# Altium schematic symbol library TI Power Management DC-DC Controller (External Switch).SchLib: 349 symbols (part 3 of 26)
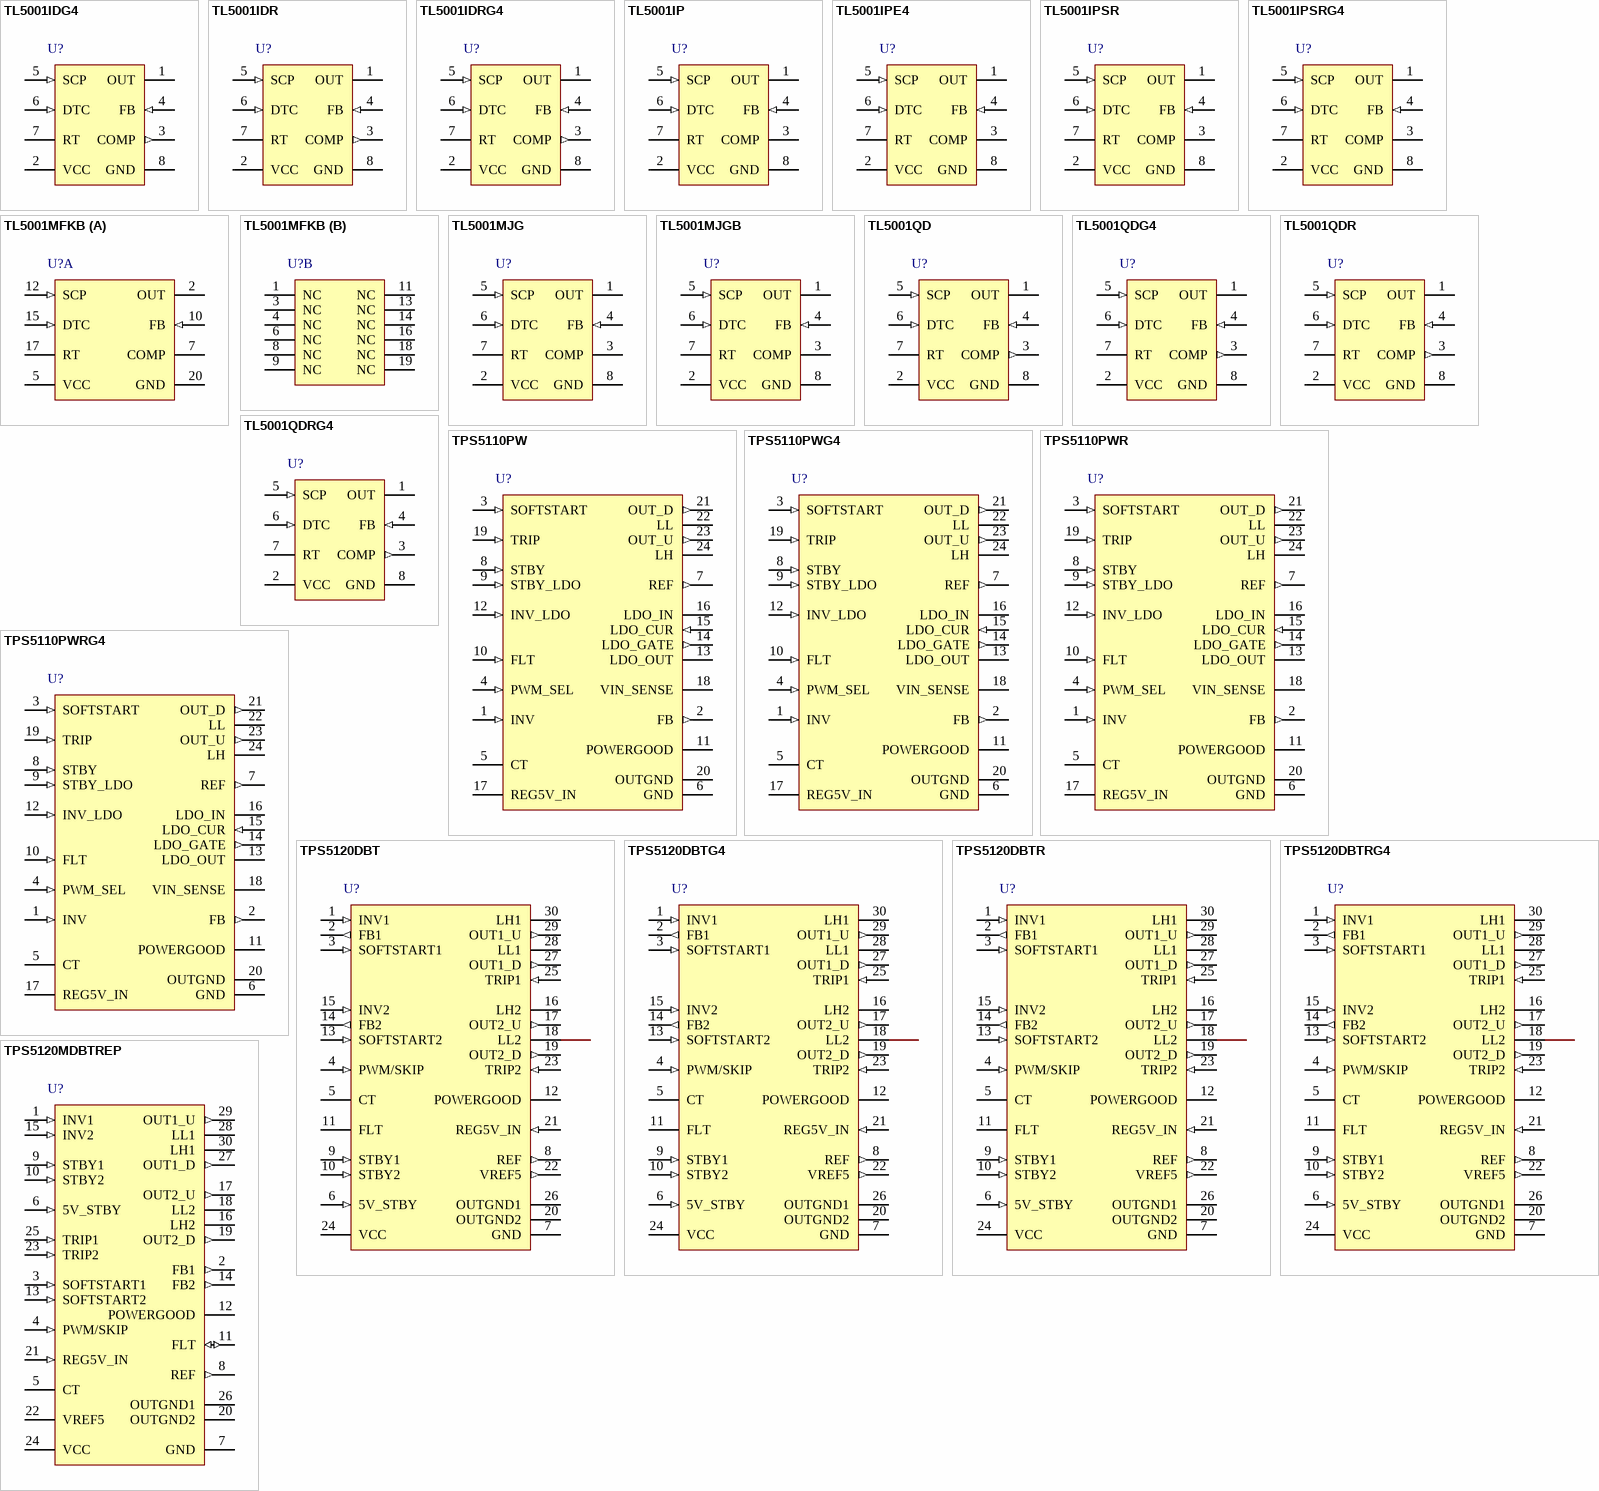
[diagram p16: symbols TL5001IDG4 to TPS5120MDBTREP]

## TL5001IDRG4
designator U?
PWM Controller with Wide Input Range, 3.6 to 40 V, -40 to 85 degC, 8-pin SOIC (D), Green (RoHS & no Sb/Br); Manufacturer: Texas Instruments; PartNumber: TL5001IDRG4; Iout(Max)(A): 3; Regulated Outputs(#): 1; SubFamily: Buck-Boost, Inverting Switching Controller; Switching Frequency(Max)(kHz): 400; Synchronous Rectification: TRUE; Topology: Buck, Boost, Flyback"; Vin(Max)(V): 40; Vin(Min)(V): 3.6; Vout(Max)(V): 50; DatasheetVersion: SLVS084F; PackageVersion: revM, Jun-2011; PackageReference: D8; PackageDescription: 8-Pin Plastic Small Outline Integrated Circuit, 4.9 x 3.9 mm, Pitch 1.27 mm Pitch; Supplier 1: Digi-Key; Supplier Part Number 1: TL5001IDRG4-ND; Eco-Plan: Green (RoHS & no Sb/Br); Vout(Min)(V): 1; Mounting Technology: Surface Mount; Code_JEDEC: MS-012AA; ComponentLink1Description: Datasheet; ComponentLink1URL: http://www.ti.com/general/docs/lit/getliterature.tsp?genericPartNumber=TL5001&fileType=pdf; ComponentLink2Description: Package Specification; ComponentLink2URL: http://www.ti.com/litv/pdf/msoi002j
footprint D8_N (SOIC, 8-Leads, Body 4.9x3.9mm, Pitch 1.27mm, IPC Medium Density)
footprint D8_L (SOIC, 8-Leads, Body 4.9x3.9mm, Pitch 1.27mm, IPC High Density)
footprint D8_M (SOIC, 8-Leads, Body 4.9x3.9mm, Pitch 1.27mm, IPC Low Density)
pins: 1 OUT (oc), 2 VCC (power), 3 COMP (out), 4 FB (in), 5 SCP (in), 6 DTC (in), 7 RT, 8 GND (power)

## TL5001IP
designator U?
PWM Controller with Wide Input Range, 3.6 to 40 V, -40 to 85 degC, 8-pin PDIP (P), Pb-Free (RoHS); Manufacturer: Texas Instruments; PartNumber: TL5001IP; Iout(Max)(A): 3; Regulated Outputs(#): 1; SubFamily: Buck-Boost, Inverting Switching Controller; Switching Frequency(Max)(kHz): 400; Synchronous Rectification: TRUE; Topology: Buck, Boost, Flyback"; Vin(Max)(V): 40; Vin(Min)(V): 3.6; Vout(Max)(V): 50; DatasheetVersion: SLVS084F; PackageVersion: revE, Apr-2010; PackageReference: P8; PackageDescription: 8-Pin Plastic Dual-In-Line Package, Row Spacing 7.62 mm, Pitch 2.54 mm; Supplier 1: Digi-Key; Supplier Part Number 1: TL5001IP-ND; Eco-Plan: Pb-Free (RoHS); Vout(Min)(V): 1; Mounting Technology: Through Hole; Code_JEDEC: MS-001-BA; ComponentLink1Description: Datasheet; ComponentLink1URL: http://www.ti.com/general/docs/lit/getliterature.tsp?genericPartNumber=TL5001&fileType=pdf; ComponentLink2Description: Package Specification; ComponentLink2URL: http://www.ti.com/lit/ml/mpdi001b/mpdi001b.pdf
footprint P8 (DIP, 8-Leads, Row Spacing 7.62mm, Pitch 2.54mm, Body 9.6x6.4mm)
pins: 1 OUT (oc), 2 VCC (power), 3 COMP, 4 FB (in), 5 SCP (in), 6 DTC (in), 7 RT, 8 GND (power)

## TL5001IPE4
designator U?
PWM Controller with Wide Input Range, 3.6 to 40 V, -40 to 85 degC, 8-pin PDIP (P), Pb-Free (RoHS); Manufacturer: Texas Instruments; PartNumber: TL5001IPE4; Iout(Max)(A): 3; Regulated Outputs(#): 1; SubFamily: Buck-Boost, Inverting Switching Controller; Switching Frequency(Max)(kHz): 400; Synchronous Rectification: TRUE; Topology: Buck, Boost, Flyback"; Vin(Max)(V): 40; Vin(Min)(V): 3.6; Vout(Max)(V): 50; DatasheetVersion: SLVS084F; PackageVersion: revE, Apr-2010; PackageReference: P8; PackageDescription: 8-Pin Plastic Dual-In-Line Package, Row Spacing 7.62 mm, Pitch 2.54 mm; Supplier 1: Digi-Key; Supplier Part Number 1: TL5001IPE4-ND; Eco-Plan: Pb-Free (RoHS); Vout(Min)(V): 1; Mounting Technology: Through Hole; Code_JEDEC: MS-001-BA; ComponentLink1Description: Datasheet; ComponentLink1URL: http://www.ti.com/general/docs/lit/getliterature.tsp?genericPartNumber=TL5001&fileType=pdf; ComponentLink2Description: Package Specification; ComponentLink2URL: http://www.ti.com/lit/ml/mpdi001b/mpdi001b.pdf
footprint P8 (DIP, 8-Leads, Row Spacing 7.62mm, Pitch 2.54mm, Body 9.6x6.4mm)
pins: 1 OUT (oc), 2 VCC (power), 3 COMP, 4 FB (in), 5 SCP (in), 6 DTC (in), 7 RT, 8 GND (power)

## TL5001IPSR
designator U?
PWM Controller with Wide Input Range, 3.6 to 40 V, 8-pin SO (PS), Green (RoHS & no Sb/Br); Manufacturer: Texas Instruments; PartNumber: TL5001IPSR; Iout(Max)(A): 3; Regulated Outputs(#): 1; SubFamily: Buck-Boost, Inverting Switching Controller; Switching Frequency(Max)(kHz): 400; Synchronous Rectification: TRUE; Topology: Buck, Boost, Flyback"; Vin(Max)(V): 40; Vin(Min)(V): 3.6; Vout(Max)(V): 50; DatasheetVersion: SLVS084F; PackageVersion: revC, Mar-2003; PackageReference: PS8; PackageDescription: 8-Pin Plastic Small Outline Package, 6.2 x 5.3 mm, Pitch 1.27 mm Pitch; Supplier 1: Digi-Key; Supplier Part Number 1: TL5001IPSR-ND; Eco-Plan: Green (RoHS & no Sb/Br); Vout(Min)(V): 1; Mounting Technology: Surface Mount; ComponentLink1Description: Datasheet; ComponentLink1URL: http://www.ti.com/general/docs/lit/getliterature.tsp?genericPartNumber=TL5001&fileType=pdf; ComponentLink2Description: Package Specification; ComponentLink2URL: http://www.ti.com/litv/pdf/msop001a
footprint PS8_N (SOP, 8-Leads, Body 6.2x5.3mm, Pitch 1.27mm, IPC Medium Density)
footprint PS8_L (SOP, 8-Leads, Body 6.2x5.3mm, Pitch 1.27mm, IPC High Density)
footprint PS8_M (SOP, 8-Leads, Body 6.2x5.3mm, Pitch 1.27mm, IPC Low Density)
pins: 1 OUT (oc), 2 VCC (power), 3 COMP, 4 FB (in), 5 SCP (in), 6 DTC (in), 7 RT, 8 GND (power)

## TL5001IPSRG4
designator U?
PWM Controller with Wide Input Range, 3.6 to 40 V, 8-pin SO (PS), Green (RoHS & no Sb/Br); Manufacturer: Texas Instruments; PartNumber: TL5001IPSRG4; Iout(Max)(A): 3; Regulated Outputs(#): 1; SubFamily: Buck-Boost, Inverting Switching Controller; Switching Frequency(Max)(kHz): 400; Synchronous Rectification: TRUE; Topology: Buck, Boost, Flyback"; Vin(Max)(V): 40; Vin(Min)(V): 3.6; Vout(Max)(V): 50; DatasheetVersion: SLVS084F; PackageVersion: revC, Mar-2003; PackageReference: PS8; PackageDescription: 8-Pin Plastic Small Outline Package, 6.2 x 5.3 mm, Pitch 1.27 mm Pitch; Supplier 1: Digi-Key; Supplier Part Number 1: TL5001IPSRG4-ND; Eco-Plan: Green (RoHS & no Sb/Br); Vout(Min)(V): 1; Mounting Technology: Surface Mount; ComponentLink1Description: Datasheet; ComponentLink1URL: http://www.ti.com/general/docs/lit/getliterature.tsp?genericPartNumber=TL5001&fileType=pdf; ComponentLink2Description: Package Specification; ComponentLink2URL: http://www.ti.com/litv/pdf/msop001a
footprint PS8_N (SOP, 8-Leads, Body 6.2x5.3mm, Pitch 1.27mm, IPC Medium Density)
footprint PS8_L (SOP, 8-Leads, Body 6.2x5.3mm, Pitch 1.27mm, IPC High Density)
footprint PS8_M (SOP, 8-Leads, Body 6.2x5.3mm, Pitch 1.27mm, IPC Low Density)
pins: 1 OUT (oc), 2 VCC (power), 3 COMP, 4 FB (in), 5 SCP (in), 6 DTC (in), 7 RT, 8 GND (power)

## TL5001MFKB
designator U?
PWM Controller with Wide Input Range, 3.6 to 40 V, -55 to 125 degC, 20-pin LCCC (FK); Manufacturer: Texas Instruments; PartNumber: TL5001MFKB; Duty Cycle(Max)(%): 0; Iout(Max)(A): 3; Regulated Outputs(#): 1; SubFamily: Buck-Boost, Inverting Switching Controller; Switching Frequency(Max)(kHz): 400; Synchronous Rectification: TRUE; Topology: Buck, Boost, Flyback; Vin(Max)(V): 40; Vin(Min)(V): 3.6; Vout(Max)(V): 50; DatasheetVersion: SLVS084F; PackageVersion: revD, Jan-2011; PackageReference: FK20; PackageDescription: 20-Pin Leadless Ceramic Chip Carrier, 1.27 mm Pitch; Vout(Min)(V): 1; Mounting Technology: Surface Mount; Code_JEDEC: MS-004; ComponentLink1Description: Datasheet; ComponentLink1URL: http://www.ti.com/general/docs/lit/getliterature.tsp?genericPartNumber=TL5001M&fileType=pdf; ComponentLink2Description: Package Specification; ComponentLink2URL: http://www.ti.com/litv/pdf/mlcc006d
footprint FK20_N (Leadless Chip Carrier, 20-Leads, Body 8.9x8.9mm, Pitch 1.27mm, IPC Medium Density)
footprint FK20_L (Leadless Chip Carrier, 20-Leads, Body 8.9x8.9mm, Pitch 1.27mm, IPC High Density)
footprint FK20_M (Leadless Chip Carrier, 20-Leads, Body 8.9x8.9mm, Pitch 1.27mm, IPC Low Density)
part A pins: 2 OUT (oc), 5 VCC (power), 7 COMP, 10 FB (in), 12 SCP (in), 15 DTC (in), 17 RT, 20 GND (power)
part B pins: 1 NC, 3 NC, 4 NC, 6 NC, 8 NC, 9 NC, 11 NC, 13 NC, 14 NC, 16 NC, 18 NC, 19 NC

## TL5001MJG
designator U?
PWM Controller with Wide Input Range, 3.6 to 40 V, -55 to 125 degC, 8-pin CDIP (JG); Manufacturer: Texas Instruments; PartNumber: TL5001MJG; Duty Cycle(Max)(%): 0; Iout(Max)(A): 3; Regulated Outputs(#): 1; SubFamily: Buck-Boost, Inverting Switching Controller; Switching Frequency(Max)(kHz): 400; Synchronous Rectification: TRUE; Topology: Buck, Boost, Flyback; Vin(Max)(V): 40; Vin(Min)(V): 3.6; Vout(Max)(V): 50; DatasheetVersion: SLVS084F; PackageVersion: revC, Aug-1996; PackageReference: JG8; PackageDescription: 8-Pin Ceramic Dual-In-Line Package, Row Spacing 7.62 mm, Pitch 2.54 mm; Vout(Min)(V): 1; Mounting Technology: Through Hole; ComponentLink1Description: Datasheet; ComponentLink1URL: http://www.ti.com/general/docs/lit/getliterature.tsp?genericPartNumber=TL5001M&fileType=pdf; ComponentLink2Description: Package Specification; ComponentLink2URL: http://www.ti.com/litv/pdf/mcer001a
footprint JG8 (DIP, 8-Leads, Row Spacing 7.62mm, Pitch 2.54mm, Body 9.6x6.7mm)
pins: 1 OUT (oc), 2 VCC (power), 3 COMP, 4 FB (in), 5 SCP (in), 6 DTC (in), 7 RT, 8 GND (power)

## TL5001MJGB
designator U?
PWM Controller with Wide Input Range, 3.6 to 40 V, -55 to 125 degC, 8-pin CDIP (JG); Manufacturer: Texas Instruments; PartNumber: TL5001MJGB; Iout(Max)(A): 3; Regulated Outputs(#): 1; SubFamily: Buck-Boost, Inverting Switching Controller; Switching Frequency(Max)(kHz): 400; Synchronous Rectification: TRUE; Topology: Buck, Boost, Flyback; Vin(Max)(V): 40; Vin(Min)(V): 3.6; Vout(Max)(V): 50; DatasheetVersion: SLVS084F; PackageVersion: revC, Aug-1996; PackageReference: JG8; PackageDescription: 8-Pin Ceramic Dual-In-Line Package, Row Spacing 7.62 mm, Pitch 2.54 mm; Vout(Min)(V): 1; Mounting Technology: Through Hole; ComponentLink1Description: Datasheet; ComponentLink1URL: http://www.ti.com/general/docs/lit/getliterature.tsp?genericPartNumber=TL5001M&fileType=pdf; ComponentLink2Description: Package Specification; ComponentLink2URL: http://www.ti.com/litv/pdf/mcer001a
footprint JG8 (DIP, 8-Leads, Row Spacing 7.62mm, Pitch 2.54mm, Body 9.6x6.7mm)
pins: 1 OUT (oc), 2 VCC (power), 3 COMP, 4 FB (in), 5 SCP (in), 6 DTC (in), 7 RT, 8 GND (power)

## TL5001QD
designator U?
PWM Controller with Wide Input Range, 3.6 to 40 V, -40 to 125 degC, 8-pin SOIC (D), Green (RoHS & no Sb/Br); Manufacturer: Texas Instruments; PartNumber: TL5001QD; Duty Cycle(Max)(%): 0; Iout(Max)(A): 3; Regulated Outputs(#): 1; SubFamily: Buck-Boost, Inverting Switching Controller; Switching Frequency(Max)(kHz): 400; Synchronous Rectification: TRUE; Topology: Buck, Boost, Flyback; Vin(Max)(V): 40; Vin(Min)(V): 3.6; Vout(Max)(V): 50; DatasheetVersion: SLVS084F; PackageVersion: revM, Jun-2011; PackageReference: D8; PackageDescription: 8-Pin Plastic Small Outline Integrated Circuit, 4.9 x 3.9 mm, Pitch 1.27 mm Pitch; Supplier 1: Digi-Key; Supplier Part Number 1: 296-10215-5-ND; Eco-Plan: Green (RoHS & no Sb/Br); Vout(Min)(V): 1; Mounting Technology: Surface Mount; Code_JEDEC: MS-012AA; ComponentLink1Description: Datasheet; ComponentLink1URL: http://www.ti.com/general/docs/lit/getliterature.tsp?genericPartNumber=TL5001&fileType=pdf; ComponentLink2Description: Package Specification; ComponentLink2URL: http://www.ti.com/litv/pdf/msoi002j
footprint D8_N (SOIC, 8-Leads, Body 4.9x3.9mm, Pitch 1.27mm, IPC Medium Density)
footprint D8_L (SOIC, 8-Leads, Body 4.9x3.9mm, Pitch 1.27mm, IPC High Density)
footprint D8_M (SOIC, 8-Leads, Body 4.9x3.9mm, Pitch 1.27mm, IPC Low Density)
pins: 1 OUT (oc), 2 VCC (power), 3 COMP (out), 4 FB (in), 5 SCP (in), 6 DTC (in), 7 RT, 8 GND (power)

## TL5001QDG4
designator U?
PWM Controller with Wide Input Range, 3.6 to 40 V, 8-pin SOIC (D), Green (RoHS & no Sb/Br); Manufacturer: Texas Instruments; PartNumber: TL5001QDG4; Iout(Max)(A): 3; Regulated Outputs(#): 1; SubFamily: Buck-Boost, Inverting Switching Controller; Switching Frequency(Max)(kHz): 400; Synchronous Rectification: TRUE; Topology: Buck, Boost, Flyback"; Vin(Max)(V): 40; Vin(Min)(V): 3.6; Vout(Max)(V): 50; DatasheetVersion: SLVS084F; PackageVersion: revM, Jun-2011; PackageReference: D8; PackageDescription: 8-Pin Plastic Small Outline Integrated Circuit, 4.9 x 3.9 mm, Pitch 1.27 mm Pitch; Supplier 1: Digi-Key; Supplier Part Number 1: 296-22045-5-ND; Eco-Plan: Green (RoHS & no Sb/Br); Vout(Min)(V): 1; Mounting Technology: Surface Mount; Code_JEDEC: MS-012AA; ComponentLink1Description: Datasheet; ComponentLink1URL: http://www.ti.com/general/docs/lit/getliterature.tsp?genericPartNumber=TL5001&fileType=pdf; ComponentLink2Description: Package Specification; ComponentLink2URL: http://www.ti.com/litv/pdf/msoi002j
footprint D8_N (SOIC, 8-Leads, Body 4.9x3.9mm, Pitch 1.27mm, IPC Medium Density)
footprint D8_L (SOIC, 8-Leads, Body 4.9x3.9mm, Pitch 1.27mm, IPC High Density)
footprint D8_M (SOIC, 8-Leads, Body 4.9x3.9mm, Pitch 1.27mm, IPC Low Density)
pins: 1 OUT (oc), 2 VCC (power), 3 COMP (out), 4 FB (in), 5 SCP (in), 6 DTC (in), 7 RT, 8 GND (power)

## TL5001QDR
designator U?
PWM Controller with Wide Input Range, 3.6 to 40 V, -40 to 125 degC, 8-pin SOIC (D), Green (RoHS & no Sb/Br); Manufacturer: Texas Instruments; PartNumber: TL5001QDR; Duty Cycle(Max)(%): 0; Iout(Max)(A): 3; Regulated Outputs(#): 1; SubFamily: Buck-Boost, Inverting Switching Controller; Switching Frequency(Max)(kHz): 400; Synchronous Rectification: TRUE; Topology: Buck, Boost, Flyback; Vin(Max)(V): 40; Vin(Min)(V): 3.6; Vout(Max)(V): 50; DatasheetVersion: SLVS084F; PackageVersion: revM, Jun-2011; PackageReference: D8; PackageDescription: 8-Pin Plastic Small Outline Integrated Circuit, 4.9 x 3.9 mm, Pitch 1.27 mm Pitch; Supplier 1: Digi-Key; Supplier Part Number 1: TL5001QDR-ND; Eco-Plan: Green (RoHS & no Sb/Br); Vout(Min)(V): 1; Mounting Technology: Surface Mount; Code_JEDEC: MS-012AA; ComponentLink1Description: Datasheet; ComponentLink1URL: http://www.ti.com/general/docs/lit/getliterature.tsp?genericPartNumber=TL5001&fileType=pdf; ComponentLink2Description: Package Specification; ComponentLink2URL: http://www.ti.com/litv/pdf/msoi002j
footprint D8_N (SOIC, 8-Leads, Body 4.9x3.9mm, Pitch 1.27mm, IPC Medium Density)
footprint D8_L (SOIC, 8-Leads, Body 4.9x3.9mm, Pitch 1.27mm, IPC High Density)
footprint D8_M (SOIC, 8-Leads, Body 4.9x3.9mm, Pitch 1.27mm, IPC Low Density)
pins: 1 OUT (oc), 2 VCC (power), 3 COMP (out), 4 FB (in), 5 SCP (in), 6 DTC (in), 7 RT, 8 GND (power)

## TL5001QDRG4
designator U?
PWM Controller with Wide Input Range, 0 % Duty Cycle, 3.6 to 40 V, 8-pin SOIC (D), Green (RoHS & no Sb/Br); Manufacturer: Texas Instruments; PartNumber: TL5001QDRG4; Iout(Max)(A): 3; Regulated Outputs(#): 1; SubFamily: Buck-Boost, Inverting Switching Controller; Switching Frequency(Max)(kHz): 400; Synchronous Rectification: TRUE; Topology: Buck, Boost, Flyback"; Vin(Max)(V): 40; Vin(Min)(V): 3.6; Vout(Max)(V): 50; DatasheetVersion: SLVS084F; PackageVersion: revM, Jun-2011; PackageReference: D8; PackageDescription: 8-Pin Plastic Small Outline Integrated Circuit, 4.9 x 3.9 mm, Pitch 1.27 mm Pitch; Supplier 1: Digi-Key; Supplier Part Number 1: 296-29556-2-ND; Eco-Plan: Green (RoHS & no Sb/Br); Vout(Min)(V): 1; Mounting Technology: Surface Mount; Code_JEDEC: MS-012AA; ComponentLink1Description: Datasheet; ComponentLink1URL: http://www.ti.com/general/docs/lit/getliterature.tsp?genericPartNumber=TL5001&fileType=pdf; ComponentLink2Description: Package Specification; ComponentLink2URL: http://www.ti.com/litv/pdf/msoi002j
footprint D8_N (SOIC, 8-Leads, Body 4.9x3.9mm, Pitch 1.27mm, IPC Medium Density)
footprint D8_L (SOIC, 8-Leads, Body 4.9x3.9mm, Pitch 1.27mm, IPC High Density)
footprint D8_M (SOIC, 8-Leads, Body 4.9x3.9mm, Pitch 1.27mm, IPC Low Density)
pins: 1 OUT (oc), 2 VCC (power), 3 COMP (out), 4 FB (in), 5 SCP (in), 6 DTC (in), 7 RT, 8 GND (power)

## TPS5110PW
designator U?
Synchronous Buck PWM Controller with NMOS LDO Controller, 100 % Duty Cycle, 4.5 to 28 V, -40 to 85 degC, 24-pin TSSOP (PW), Green (RoHS & no Sb/Br); Manufacturer: Texas Instruments; PartNumber: TPS5110PW; Duty Cycle(Max)(%): 100; Iout(Max)(A): 15; Regulated Outputs(#): 2; SubFamily: Step-Down Controller; Switching Frequency(Max)(kHz): 500; Synchronous Rectification: TRUE; Vin(Max)(V): 28; Vin(Min)(V): 4.5; Vout(Max)(V): 3.5; Vout(Min)(V): 0.9; DatasheetVersion: SLVS025B; PackageVersion: revG, Feb-2011; PackageReference: PW24; PackageDescription: 24-Pin Thin Small Outline Package 0.65 mm Pitch; Supplier 1: Digi-Key; Supplier Part Number 1: 296-15672-5-ND; Eco-Plan: Green (RoHS & no Sb/Br); Iout2(A): 15; Topology: Buck; Vout2(Max)(V): 3.5; Vout2(Min)(V): 0.9; Mounting Technology: Surface Mount; Code_JEDEC: MO-153; ComponentLink1Description: Datasheet; ComponentLink1URL: http://www.ti.com/general/docs/lit/getliterature.tsp?genericPartNumber=TPS5110&fileType=pdf; ComponentLink2Description: Package Specification; ComponentLink2URL: http://www.ti.com/litv/pdf/mpds177g
footprint PW24_N (TSOP, 24-Leads, Body 7.8x4.4mm, Pitch 0.65mm, IPC Medium Density)
footprint PW24_L (TSOP, 24-Leads, Body 7.8x4.4mm, Pitch 0.65mm, IPC High Density)
footprint PW24_M (TSOP, 24-Leads, Body 7.8x4.4mm, Pitch 0.65mm, IPC Low Density)
pins: 1 INV (in) "Inverting input of the SBRC error amplifier, skip comparator, OVP/UVP comparators and POWERGOOD comparator", 2 FB (out) "Feedback output of error amplifier", 3 SOFTSTART (in) "External capacitor between SOFTSTART and GND sets SBRC soft-start time.", 4 PWM_SEL (in) "PWM or auto PWM/SKIP modes select. H: auto PWM/SKIP L: PWM fixed", 5 CT "External capacitor from CT to GND adjusts frequency of the triangle oscillator.", 6 GND (power) "Signal GND", 7 REF (out) "0.85-V reference voltage output. This 0.85-V reference voltage is used for setting the output voltage and the voltage protections. This reference voltage is regulated from REG5V_IN power supply.", 8 STBY (in) "Standby control input for SBRC. SBRC can be switched into standby mode by grounding the STBY pin.", 9 STBY_LDO (in) "Standby control input for LDO regulator. LDO regulator can be switched into standby mode by grounding the STBY_LDO pin.", 10 FLT (in) "Fault latch timer pin. An external capacitor is connected between FLT and GND to set the FLT enable time up.", 11 POWERGOOD (oc) "Power good open-drain output. PG comparators monitor both SBRC’s and LDO’s over voltage and under voltage. The threshold is +/-7%. When either output is beyond this condition, POWERGOOD output goes low. When STBY or STBY_LDO (See Datasheet)", 12 INV_LDO (in) "Inverting input of the LDO regulator, OVP/UVP comparators and POWERGOOD comparator", 13 LDO_OUT (power) "LDO regulator’s output connection. If output voltage causes an over shoot at output current changes high to low quickly, it pulls out electrical charge from this pin.", 14 LDO_GATE (out) "Gate control output of an external MOSFET for LDO", 15 LDO_CUR (in) "Current sense input of the LDO regulator.", 16 LDO_IN (power) "Input of LDO regulator and current sense input of LDO regulator", 17 REG5V_IN (power) "External 5-V input. This input is a supply voltage for internal circuits.", 18 VIN_SENSE (power) "SBRC supply voltage monitor. Input range is 4.5 V to 28 V. This pin is for reference of current limit.", 19 TRIP (in) "External resistor connection for SBRC’s output current protection control.", 20 OUTGND (power) "Ground for FET drivers. It is connected to the current limiting comparator’s negative input.", 21 OUT_D (out) "Gate drive output for low-side MOSFET(s)", 22 LL (power) "High side gate driving return. Connect this pin to the junction of the high side and low side MOSFET(s) for floating drive configuration. This pin also is an input terminal for current comparator.", 23 OUT_U (out) "Gate drive output for high-side MOSFET(s).", 24 LH (power) "Bootstrap capacitor connection for high-side gate driver"

## TPS5110PWG4
designator U?
Synchronous Buck PWM Controller with NMOS LDO Controller, 100 % Duty Cycle, 4.5 to 28 V, -40 to 85 degC, 24-pin TSSOP (PW), Green (RoHS & no Sb/Br); Manufacturer: Texas Instruments; PartNumber: TPS5110PWG4; Duty Cycle(Max)(%): 100; Iout(Max)(A): 15; Regulated Outputs(#): 2; SubFamily: Step-Down Controller; Switching Frequency(Max)(kHz): 500; Synchronous Rectification: TRUE; Vin(Max)(V): 28; Vin(Min)(V): 4.5; Vout(Max)(V): 3.5; Vout(Min)(V): 0.9; DatasheetVersion: SLVS025B; PackageVersion: revG, Feb-2011; PackageReference: PW24; PackageDescription: 24-Pin Thin Small Outline Package 0.65 mm Pitch; Supplier 1: Digi-Key; Supplier Part Number 1: TPS5110PWG4-ND; Eco-Plan: Green (RoHS & no Sb/Br); Iout2(A): 15; Topology: Buck; Vout2(Max)(V): 3.5; Vout2(Min)(V): 0.9; Mounting Technology: Surface Mount; Code_JEDEC: MO-153; ComponentLink1Description: Datasheet; ComponentLink1URL: http://www.ti.com/general/docs/lit/getliterature.tsp?genericPartNumber=TPS5110&fileType=pdf; ComponentLink2Description: Package Specification; ComponentLink2URL: http://www.ti.com/litv/pdf/mpds177g
footprint PW24_N (TSOP, 24-Leads, Body 7.8x4.4mm, Pitch 0.65mm, IPC Medium Density)
footprint PW24_L (TSOP, 24-Leads, Body 7.8x4.4mm, Pitch 0.65mm, IPC High Density)
footprint PW24_M (TSOP, 24-Leads, Body 7.8x4.4mm, Pitch 0.65mm, IPC Low Density)
pins: 1 INV (in) "Inverting input of the SBRC error amplifier, skip comparator, OVP/UVP comparators and POWERGOOD comparator", 2 FB (out) "Feedback output of error amplifier", 3 SOFTSTART (in) "External capacitor between SOFTSTART and GND sets SBRC soft-start time.", 4 PWM_SEL (in) "PWM or auto PWM/SKIP modes select. H: auto PWM/SKIP L: PWM fixed", 5 CT "External capacitor from CT to GND adjusts frequency of the triangle oscillator.", 6 GND (power) "Signal GND", 7 REF (out) "0.85-V reference voltage output. This 0.85-V reference voltage is used for setting the output voltage and the voltage protections. This reference voltage is regulated from REG5V_IN power supply.", 8 STBY (in) "Standby control input for SBRC. SBRC can be switched into standby mode by grounding the STBY pin.", 9 STBY_LDO (in) "Standby control input for LDO regulator. LDO regulator can be switched into standby mode by grounding the STBY_LDO pin.", 10 FLT (in) "Fault latch timer pin. An external capacitor is connected between FLT and GND to set the FLT enable time up.", 11 POWERGOOD (oc) "Power good open-drain output. PG comparators monitor both SBRC’s and LDO’s over voltage and under voltage. The threshold is +/-7%. When either output is beyond this condition, POWERGOOD output goes low. When STBY or STBY_LDO (See Datasheet)", 12 INV_LDO (in) "Inverting input of the LDO regulator, OVP/UVP comparators and POWERGOOD comparator", 13 LDO_OUT (power) "LDO regulator’s output connection. If output voltage causes an over shoot at output current changes high to low quickly, it pulls out electrical charge from this pin.", 14 LDO_GATE (out) "Gate control output of an external MOSFET for LDO", 15 LDO_CUR (in) "Current sense input of the LDO regulator.", 16 LDO_IN (power) "Input of LDO regulator and current sense input of LDO regulator", 17 REG5V_IN (power) "External 5-V input. This input is a supply voltage for internal circuits.", 18 VIN_SENSE (power) "SBRC supply voltage monitor. Input range is 4.5 V to 28 V. This pin is for reference of current limit.", 19 TRIP (in) "External resistor connection for SBRC’s output current protection control.", 20 OUTGND (power) "Ground for FET drivers. It is connected to the current limiting comparator’s negative input.", 21 OUT_D (out) "Gate drive output for low-side MOSFET(s)", 22 LL (power) "High side gate driving return. Connect this pin to the junction of the high side and low side MOSFET(s) for floating drive configuration. This pin also is an input terminal for current comparator.", 23 OUT_U (out) "Gate drive output for high-side MOSFET(s).", 24 LH (power) "Bootstrap capacitor connection for high-side gate driver"

## TPS5110PWR
designator U?
Synchronous Buck PWM Controller with NMOS LDO Controller, 100 % Duty Cycle, 4.5 to 28 V, -40 to 85 degC, 24-pin TSSOP (PW), Green (RoHS & no Sb/Br); Manufacturer: Texas Instruments; PartNumber: TPS5110PWR; Duty Cycle(Max)(%): 100; Iout(Max)(A): 15; Regulated Outputs(#): 2; SubFamily: Step-Down Controller; Switching Frequency(Max)(kHz): 500; Synchronous Rectification: TRUE; Vin(Max)(V): 28; Vin(Min)(V): 4.5; Vout(Max)(V): 3.5; Vout(Min)(V): 0.9; DatasheetVersion: SLVS025B; PackageVersion: revG, Feb-2011; PackageReference: PW24; PackageDescription: 24-Pin Thin Small Outline Package 0.65 mm Pitch; Supplier 1: Digi-Key; Supplier Part Number 1: TPS5110PWR-ND; Eco-Plan: Green (RoHS & no Sb/Br); Iout2(A): 15; Topology: Buck; Vout2(Max)(V): 3.5; Vout2(Min)(V): 0.9; Mounting Technology: Surface Mount; Code_JEDEC: MO-153; ComponentLink1Description: Datasheet; ComponentLink1URL: http://www.ti.com/general/docs/lit/getliterature.tsp?genericPartNumber=TPS5110&fileType=pdf; ComponentLink2Description: Package Specification; ComponentLink2URL: http://www.ti.com/litv/pdf/mpds177g
footprint PW24_N (TSOP, 24-Leads, Body 7.8x4.4mm, Pitch 0.65mm, IPC Medium Density)
footprint PW24_L (TSOP, 24-Leads, Body 7.8x4.4mm, Pitch 0.65mm, IPC High Density)
footprint PW24_M (TSOP, 24-Leads, Body 7.8x4.4mm, Pitch 0.65mm, IPC Low Density)
pins: 1 INV (in) "Inverting input of the SBRC error amplifier, skip comparator, OVP/UVP comparators and POWERGOOD comparator", 2 FB (out) "Feedback output of error amplifier", 3 SOFTSTART (in) "External capacitor between SOFTSTART and GND sets SBRC soft-start time.", 4 PWM_SEL (in) "PWM or auto PWM/SKIP modes select. H: auto PWM/SKIP L: PWM fixed", 5 CT "External capacitor from CT to GND adjusts frequency of the triangle oscillator.", 6 GND (power) "Signal GND", 7 REF (out) "0.85-V reference voltage output. This 0.85-V reference voltage is used for setting the output voltage and the voltage protections. This reference voltage is regulated from REG5V_IN power supply.", 8 STBY (in) "Standby control input for SBRC. SBRC can be switched into standby mode by grounding the STBY pin.", 9 STBY_LDO (in) "Standby control input for LDO regulator. LDO regulator can be switched into standby mode by grounding the STBY_LDO pin.", 10 FLT (in) "Fault latch timer pin. An external capacitor is connected between FLT and GND to set the FLT enable time up.", 11 POWERGOOD (oc) "Power good open-drain output. PG comparators monitor both SBRC’s and LDO’s over voltage and under voltage. The threshold is +/-7%. When either output is beyond this condition, POWERGOOD output goes low. When STBY or STBY_LDO (See Datasheet)", 12 INV_LDO (in) "Inverting input of the LDO regulator, OVP/UVP comparators and POWERGOOD comparator", 13 LDO_OUT (power) "LDO regulator’s output connection. If output voltage causes an over shoot at output current changes high to low quickly, it pulls out electrical charge from this pin.", 14 LDO_GATE (out) "Gate control output of an external MOSFET for LDO", 15 LDO_CUR (in) "Current sense input of the LDO regulator.", 16 LDO_IN (power) "Input of LDO regulator and current sense input of LDO regulator", 17 REG5V_IN (power) "External 5-V input. This input is a supply voltage for internal circuits.", 18 VIN_SENSE (power) "SBRC supply voltage monitor. Input range is 4.5 V to 28 V. This pin is for reference of current limit.", 19 TRIP (in) "External resistor connection for SBRC’s output current protection control.", 20 OUTGND (power) "Ground for FET drivers. It is connected to the current limiting comparator’s negative input.", 21 OUT_D (out) "Gate drive output for low-side MOSFET(s)", 22 LL (power) "High side gate driving return. Connect this pin to the junction of the high side and low side MOSFET(s) for floating drive configuration. This pin also is an input terminal for current comparator.", 23 OUT_U (out) "Gate drive output for high-side MOSFET(s).", 24 LH (power) "Bootstrap capacitor connection for high-side gate driver"

## TPS5110PWRG4
designator U?
Synchronous Buck PWM Controller with NMOS LDO Controller, 100 % Duty Cycle, 4.5 to 28 V, -40 to 85 degC, 24-pin TSSOP (PW), Green (RoHS & no Sb/Br); Manufacturer: Texas Instruments; PartNumber: TPS5110PWRG4; Duty Cycle(Max)(%): 100; Iout(Max)(A): 15; Regulated Outputs(#): 2; SubFamily: Step-Down Controller; Switching Frequency(Max)(kHz): 500; Synchronous Rectification: TRUE; Vin(Max)(V): 28; Vin(Min)(V): 4.5; Vout(Max)(V): 3.5; Vout(Min)(V): 0.9; DatasheetVersion: SLVS025B; PackageVersion: revG, Feb-2011; PackageReference: PW24; PackageDescription: 24-Pin Thin Small Outline Package 0.65 mm Pitch; Supplier 1: Digi-Key; Supplier Part Number 1: TPS5110PWRG4-ND; Eco-Plan: Green (RoHS & no Sb/Br); Iout2(A): 15; Topology: Buck; Vout2(Max)(V): 3.5; Vout2(Min)(V): 0.9; Mounting Technology: Surface Mount; Code_JEDEC: MO-153; ComponentLink1Description: Datasheet; ComponentLink1URL: http://www.ti.com/general/docs/lit/getliterature.tsp?genericPartNumber=TPS5110&fileType=pdf; ComponentLink2Description: Package Specification; ComponentLink2URL: http://www.ti.com/litv/pdf/mpds177g
footprint PW24_N (TSOP, 24-Leads, Body 7.8x4.4mm, Pitch 0.65mm, IPC Medium Density)
footprint PW24_L (TSOP, 24-Leads, Body 7.8x4.4mm, Pitch 0.65mm, IPC High Density)
footprint PW24_M (TSOP, 24-Leads, Body 7.8x4.4mm, Pitch 0.65mm, IPC Low Density)
pins: 1 INV (in) "Inverting input of the SBRC error amplifier, skip comparator, OVP/UVP comparators and POWERGOOD comparator", 2 FB (out) "Feedback output of error amplifier", 3 SOFTSTART (in) "External capacitor between SOFTSTART and GND sets SBRC soft-start time.", 4 PWM_SEL (in) "PWM or auto PWM/SKIP modes select. H: auto PWM/SKIP L: PWM fixed", 5 CT "External capacitor from CT to GND adjusts frequency of the triangle oscillator.", 6 GND (power) "Signal GND", 7 REF (out) "0.85-V reference voltage output. This 0.85-V reference voltage is used for setting the output voltage and the voltage protections. This reference voltage is regulated from REG5V_IN power supply.", 8 STBY (in) "Standby control input for SBRC. SBRC can be switched into standby mode by grounding the STBY pin.", 9 STBY_LDO (in) "Standby control input for LDO regulator. LDO regulator can be switched into standby mode by grounding the STBY_LDO pin.", 10 FLT (in) "Fault latch timer pin. An external capacitor is connected between FLT and GND to set the FLT enable time up.", 11 POWERGOOD (oc) "Power good open-drain output. PG comparators monitor both SBRC’s and LDO’s over voltage and under voltage. The threshold is +/-7%. When either output is beyond this condition, POWERGOOD output goes low. When STBY or STBY_LDO (See Datasheet)", 12 INV_LDO (in) "Inverting input of the LDO regulator, OVP/UVP comparators and POWERGOOD comparator", 13 LDO_OUT (power) "LDO regulator’s output connection. If output voltage causes an over shoot at output current changes high to low quickly, it pulls out electrical charge from this pin.", 14 LDO_GATE (out) "Gate control output of an external MOSFET for LDO", 15 LDO_CUR (in) "Current sense input of the LDO regulator.", 16 LDO_IN (power) "Input of LDO regulator and current sense input of LDO regulator", 17 REG5V_IN (power) "External 5-V input. This input is a supply voltage for internal circuits.", 18 VIN_SENSE (power) "SBRC supply voltage monitor. Input range is 4.5 V to 28 V. This pin is for reference of current limit.", 19 TRIP (in) "External resistor connection for SBRC’s output current protection control.", 20 OUTGND (power) "Ground for FET drivers. It is connected to the current limiting comparator’s negative input.", 21 OUT_D (out) "Gate drive output for low-side MOSFET(s)", 22 LL (power) "High side gate driving return. Connect this pin to the junction of the high side and low side MOSFET(s) for floating drive configuration. This pin also is an input terminal for current comparator.", 23 OUT_U (out) "Gate drive output for high-side MOSFET(s).", 24 LH (power) "Bootstrap capacitor connection for high-side gate driver"

## TPS5120DBT
designator U?
Dual Output, Two-Phase Synchronous Buck Controller with Wide Input Voltage Range, 80 % Duty Cycle, 4.5 to 28 V, -40 to 85 degC, 30-pin TSSOP (DBT), Green (RoHS & no Sb/Br); Manufacturer: Texas Instruments; PartNumber: TPS5120DBT; Duty Cycle(Max)(%): 80; Iout(Max)(A): 20; Iout2(A): 15; Regulated Outputs(#): 2; SubFamily: Multiple-Output Switching Controller; Switching Frequency(Max)(kHz): 500; Synchronous Rectification: TRUE; Vin(Max)(V): 28; Vin(Min)(V): 4.5; Vout(Max)(V): 26; Vout(Min)(V): 0.9; DatasheetVersion: SLVS278E; PackageVersion: Sep-2005; PackageReference: DBT30; PackageDescription: 30-Pin Thin Shrink Small Outline Package 0.5 mm Pitch; Supplier 1: Digi-Key; Supplier Part Number 1: 296-10925-5-ND; Eco-Plan: Green (RoHS & no Sb/Br); Topology: Buck; Vout2(Max)(V): 26; Vout2(Min)(V): 0.9; Mounting Technology: Surface Mount; Code_JEDEC: MO-153; ComponentLink1Description: Datasheet; ComponentLink1URL: http://www.ti.com/general/docs/lit/getliterature.tsp?genericPartNumber=TPS5120&fileType=pdf; ComponentLink2Description: Package Specification; ComponentLink2URL: http://www.ti.com/litv/pdf/mpds019h
footprint DBT30_N (TSSOP, 30-Leads, Body 7.8x4.4mm, Pitch 0.5mm, IPC Medium Density)
footprint DBT30_L (TSSOP, 30-Leads, Body 7.8x4.4mm, Pitch 0.5mm, IPC High Density)
footprint DBT30_M (TSSOP, 30-Leads, Body 7.8x4.4mm, Pitch 0.5mm, IPC Low Density)
pins: 1 INV1 (in) "Inverting input of the CH1 error amplifier, skip comparator, and OVP1/UVP1 comparator", 2 FB1 (out) "Feedback output of CH1 error amplifier", 3 SOFTSTART1 (in) "External capacitor from SOFTSTART1 to GND for CH1 softstart control. Separate soft-start terminals make it possible to set the start-up time of each output independently.", 4 PWM/SKIP (in) "PWM/SKIP mode select pin. The PWM/SKIP pin is used to change the output’s operating mode. If this terminal is lower than 0.5 V, it works in PWM mode. When a minimum voltage of 2 V is applied, the device operates in skip mode.(See Datasheet)", 5 CT "External capacitor from CT to GND for adjusting the triangle oscillator", 6 5V_STBY (in) "5-V linear regulator control", 7 GND (power) "Control GND", 8 REF (out) "0.85-V reference voltage output. The 0.85-V reference voltage is used for setting the output voltage and the voltage protection. This reference voltage is dropped down from a 5-V regulator.", 9 STBY1 (in) "Standby control for CH1. SMPS1 can be switched into standby mode separately by grounding the STBY1 pin.", 10 STBY2 (in) "Standby control for CH2. SMPS2 can be switched into standby mode separately by grounding the STBY2 pin.", 11 FLT "Fault latch timer pin. An external capacitor is connected between FLT and GND to set the FLT enable time up.", 12 POWERGOOD (oc) "Power good open-drain output. When low, POWERGOOD reports an output fail condition. PG comparators monitor both SMPS’s over voltage and UVLO of VREF5. The threshold is +/-7%. When the SMPS starts up, the POWERGOOD pin’s (See Datasheet)", 13 SOFTSTART2 (in) "External capacitor from SOFTSTART2 to GND for CH2 softstart control. Separate soft-start terminals make it possible to set the start-up time of each output independently.", 14 FB2 (out) "Feedback output of CH2 error amplifier", 15 INV2 (in) "Inverting input of the CH2 error amplifier, skip comparator, and OVP2/UVP2 comparator", 16 LH2 (power) "Bootstrap capacitor connection for CH2 high-side gate drive", 17 OUT2_U (out) "Gate drive output for CH2 high-side switching FETs", 18 LL2 (power) "Bootstrap this pin low for CH2 high-side gate driving return and output current protection. Connect this pin to the junction of the high-side and low-side FETs for a floating drive configuration.", 19 OUT2_D (out) "Gate drive output for CH2 low-side gate drive", 20 OUTGND2 (power) "Ground for CH2 FET drivers", 21 REG5V_IN (in) "External 5-V input", 22 VREF5 (out) "5-V internal regulator output", 23 TRIP2 (in) "External resistor connection for CH2 output current control", 24 VCC (power) "Supply voltage input", 25 TRIP1 (in) "External resistor connection for CH1 output current control", 26 OUTGND1 (power) "Ground for CH1 FET drivers", 27 OUT1_D (out) "Gate drive output for CH1 low-side gate drive", 28 LL1 (power) "Bootstrap this pin low for CH1 high-side gate driving return and output current protection. Connect this pin to the junction of the high-side and low-side FETs for a floating drive configuration.", 29 OUT1_U (out) "Gate drive output for CH1 high-side switching FETs", 30 LH1 (power) "Bootstrap capacitor connection for CH1 high-side gate drive"

## TPS5120DBTG4
designator U?
Dual Output, Two-Phase Synchronous Buck Controller with Wide Input Voltage Range, 80 % Duty Cycle, 4.5 to 28 V, -40 to 85 degC, 30-pin TSSOP (DBT), Green (RoHS & no Sb/Br); Manufacturer: Texas Instruments; PartNumber: TPS5120DBTG4; Duty Cycle(Max)(%): 80; Iout(Max)(A): 20; Iout2(A): 15; Regulated Outputs(#): 2; SubFamily: Multiple-Output Switching Controller; Switching Frequency(Max)(kHz): 500; Synchronous Rectification: TRUE; Vin(Max)(V): 28; Vin(Min)(V): 4.5; Vout(Max)(V): 26; Vout(Min)(V): 0.9; DatasheetVersion: SLVS278E; PackageVersion: Sep-2005; PackageReference: DBT30; PackageDescription: 30-Pin Thin Shrink Small Outline Package 0.5 mm Pitch; Supplier 1: Digi-Key; Supplier Part Number 1: TPS5120DBTG4-ND; Eco-Plan: Green (RoHS & no Sb/Br); Topology: Buck; Vout2(Max)(V): 26; Vout2(Min)(V): 0.9; Mounting Technology: Surface Mount; Code_JEDEC: MO-153; ComponentLink1Description: Datasheet; ComponentLink1URL: http://www.ti.com/general/docs/lit/getliterature.tsp?genericPartNumber=TPS5120&fileType=pdf; ComponentLink2Description: Package Specification; ComponentLink2URL: http://www.ti.com/litv/pdf/mpds019h
footprint DBT30_N (TSSOP, 30-Leads, Body 7.8x4.4mm, Pitch 0.5mm, IPC Medium Density)
footprint DBT30_L (TSSOP, 30-Leads, Body 7.8x4.4mm, Pitch 0.5mm, IPC High Density)
footprint DBT30_M (TSSOP, 30-Leads, Body 7.8x4.4mm, Pitch 0.5mm, IPC Low Density)
pins: 1 INV1 (in) "Inverting input of the CH1 error amplifier, skip comparator, and OVP1/UVP1 comparator", 2 FB1 (out) "Feedback output of CH1 error amplifier", 3 SOFTSTART1 (in) "External capacitor from SOFTSTART1 to GND for CH1 softstart control. Separate soft-start terminals make it possible to set the start-up time of each output independently.", 4 PWM/SKIP (in) "PWM/SKIP mode select pin. The PWM/SKIP pin is used to change the output’s operating mode. If this terminal is lower than 0.5 V, it works in PWM mode. When a minimum voltage of 2 V is applied, the device operates in skip mode.(See Datasheet)", 5 CT "External capacitor from CT to GND for adjusting the triangle oscillator", 6 5V_STBY (in) "5-V linear regulator control", 7 GND (power) "Control GND", 8 REF (out) "0.85-V reference voltage output. The 0.85-V reference voltage is used for setting the output voltage and the voltage protection. This reference voltage is dropped down from a 5-V regulator.", 9 STBY1 (in) "Standby control for CH1. SMPS1 can be switched into standby mode separately by grounding the STBY1 pin.", 10 STBY2 (in) "Standby control for CH2. SMPS2 can be switched into standby mode separately by grounding the STBY2 pin.", 11 FLT "Fault latch timer pin. An external capacitor is connected between FLT and GND to set the FLT enable time up.", 12 POWERGOOD (oc) "Power good open-drain output. When low, POWERGOOD reports an output fail condition. PG comparators monitor both SMPS’s over voltage and UVLO of VREF5. The threshold is +/-7%. When the SMPS starts up, the POWERGOOD pin’s (See Datasheet)", 13 SOFTSTART2 (in) "External capacitor from SOFTSTART2 to GND for CH2 softstart control. Separate soft-start terminals make it possible to set the start-up time of each output independently.", 14 FB2 (out) "Feedback output of CH2 error amplifier", 15 INV2 (in) "Inverting input of the CH2 error amplifier, skip comparator, and OVP2/UVP2 comparator", 16 LH2 (power) "Bootstrap capacitor connection for CH2 high-side gate drive", 17 OUT2_U (out) "Gate drive output for CH2 high-side switching FETs", 18 LL2 (power) "Bootstrap this pin low for CH2 high-side gate driving return and output current protection. Connect this pin to the junction of the high-side and low-side FETs for a floating drive configuration.", 19 OUT2_D (out) "Gate drive output for CH2 low-side gate drive", 20 OUTGND2 (power) "Ground for CH2 FET drivers", 21 REG5V_IN (in) "External 5-V input", 22 VREF5 (out) "5-V internal regulator output", 23 TRIP2 (in) "External resistor connection for CH2 output current control", 24 VCC (power) "Supply voltage input", 25 TRIP1 (in) "External resistor connection for CH1 output current control", 26 OUTGND1 (power) "Ground for CH1 FET drivers", 27 OUT1_D (out) "Gate drive output for CH1 low-side gate drive", 28 LL1 (power) "Bootstrap this pin low for CH1 high-side gate driving return and output current protection. Connect this pin to the junction of the high-side and low-side FETs for a floating drive configuration.", 29 OUT1_U (out) "Gate drive output for CH1 high-side switching FETs", 30 LH1 (power) "Bootstrap capacitor connection for CH1 high-side gate drive"

## TPS5120DBTR
designator U?
Dual Output, Two-Phase Synchronous Buck Controller with Wide Input Voltage Range, 80 % Duty Cycle, 4.5 to 28 V, -40 to 85 degC, 30-pin TSSOP (DBT), Green (RoHS & no Sb/Br); Manufacturer: Texas Instruments; PartNumber: TPS5120DBTR; Duty Cycle(Max)(%): 80; Iout(Max)(A): 20; Iout2(A): 15; Regulated Outputs(#): 2; SubFamily: Multiple-Output Switching Controller; Switching Frequency(Max)(kHz): 500; Synchronous Rectification: TRUE; Vin(Max)(V): 28; Vin(Min)(V): 4.5; Vout(Max)(V): 26; Vout(Min)(V): 0.9; DatasheetVersion: SLVS278E; PackageVersion: Sep-2005; PackageReference: DBT30; PackageDescription: 30-Pin Thin Shrink Small Outline Package 0.5 mm Pitch; Supplier 1: Digi-Key; Supplier Part Number 1: 296-26979-2-ND; Eco-Plan: Green (RoHS & no Sb/Br); Topology: Buck; Vout2(Max)(V): 26; Vout2(Min)(V): 0.9; Mounting Technology: Surface Mount; Code_JEDEC: MO-153; ComponentLink1Description: Datasheet; ComponentLink1URL: http://www.ti.com/general/docs/lit/getliterature.tsp?genericPartNumber=TPS5120&fileType=pdf; ComponentLink2Description: Package Specification; ComponentLink2URL: http://www.ti.com/litv/pdf/mpds019h
footprint DBT30_N (TSSOP, 30-Leads, Body 7.8x4.4mm, Pitch 0.5mm, IPC Medium Density)
footprint DBT30_L (TSSOP, 30-Leads, Body 7.8x4.4mm, Pitch 0.5mm, IPC High Density)
footprint DBT30_M (TSSOP, 30-Leads, Body 7.8x4.4mm, Pitch 0.5mm, IPC Low Density)
pins: 1 INV1 (in) "Inverting input of the CH1 error amplifier, skip comparator, and OVP1/UVP1 comparator", 2 FB1 (out) "Feedback output of CH1 error amplifier", 3 SOFTSTART1 (in) "External capacitor from SOFTSTART1 to GND for CH1 softstart control. Separate soft-start terminals make it possible to set the start-up time of each output independently.", 4 PWM/SKIP (in) "PWM/SKIP mode select pin. The PWM/SKIP pin is used to change the output’s operating mode. If this terminal is lower than 0.5 V, it works in PWM mode. When a minimum voltage of 2 V is applied, the device operates in skip mode.(See Datasheet)", 5 CT "External capacitor from CT to GND for adjusting the triangle oscillator", 6 5V_STBY (in) "5-V linear regulator control", 7 GND (power) "Control GND", 8 REF (out) "0.85-V reference voltage output. The 0.85-V reference voltage is used for setting the output voltage and the voltage protection. This reference voltage is dropped down from a 5-V regulator.", 9 STBY1 (in) "Standby control for CH1. SMPS1 can be switched into standby mode separately by grounding the STBY1 pin.", 10 STBY2 (in) "Standby control for CH2. SMPS2 can be switched into standby mode separately by grounding the STBY2 pin.", 11 FLT "Fault latch timer pin. An external capacitor is connected between FLT and GND to set the FLT enable time up.", 12 POWERGOOD (oc) "Power good open-drain output. When low, POWERGOOD reports an output fail condition. PG comparators monitor both SMPS’s over voltage and UVLO of VREF5. The threshold is +/-7%. When the SMPS starts up, the POWERGOOD pin’s (See Datasheet)", 13 SOFTSTART2 (in) "External capacitor from SOFTSTART2 to GND for CH2 softstart control. Separate soft-start terminals make it possible to set the start-up time of each output independently.", 14 FB2 (out) "Feedback output of CH2 error amplifier", 15 INV2 (in) "Inverting input of the CH2 error amplifier, skip comparator, and OVP2/UVP2 comparator", 16 LH2 (power) "Bootstrap capacitor connection for CH2 high-side gate drive", 17 OUT2_U (out) "Gate drive output for CH2 high-side switching FETs", 18 LL2 (power) "Bootstrap this pin low for CH2 high-side gate driving return and output current protection. Connect this pin to the junction of the high-side and low-side FETs for a floating drive configuration.", 19 OUT2_D (out) "Gate drive output for CH2 low-side gate drive", 20 OUTGND2 (power) "Ground for CH2 FET drivers", 21 REG5V_IN (in) "External 5-V input", 22 VREF5 (out) "5-V internal regulator output", 23 TRIP2 (in) "External resistor connection for CH2 output current control", 24 VCC (power) "Supply voltage input", 25 TRIP1 (in) "External resistor connection for CH1 output current control", 26 OUTGND1 (power) "Ground for CH1 FET drivers", 27 OUT1_D (out) "Gate drive output for CH1 low-side gate drive", 28 LL1 (power) "Bootstrap this pin low for CH1 high-side gate driving return and output current protection. Connect this pin to the junction of the high-side and low-side FETs for a floating drive configuration.", 29 OUT1_U (out) "Gate drive output for CH1 high-side switching FETs", 30 LH1 (power) "Bootstrap capacitor connection for CH1 high-side gate drive"